# EAGLE library part DAC081S101 (library jason-test)
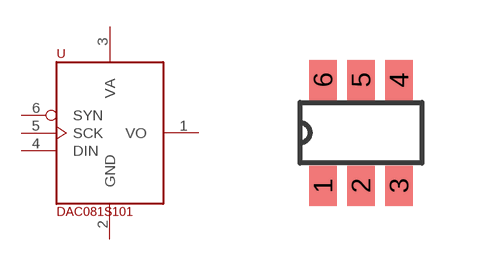
[diagram p35: symbol with the pads of TSOT-6; footprint TSOT-6]

Designator prefix -

## DAC081S101  [TSOT-6]
1  VO  out
2  GND  pwr
3  VA  pwr
4  DIN  in
5  SCK  in
6  SYN  in

## Footprint TSOT-6 (pad centres in mm)
smd 0.69 x 1: 1 -0.95,-1.325; 2 0,-1.325; 3 0.95,-1.325; 4 0.95,1.325; 5 0,1.325; 6 -0.95,1.325